# Altium footprint library Transformator.PcbLib: 59 footprints (part 2 of 4)
Each footprint in its own frame and in the unit in brackets; x right, y up, seen from the top. Pads: shape width x height; smd on the part's side, far side on the other; paste and mask are expansions set on the pad; w line width, h text height; cw(c..) or ccw(c..) is an arc to the next point about the centre after c.
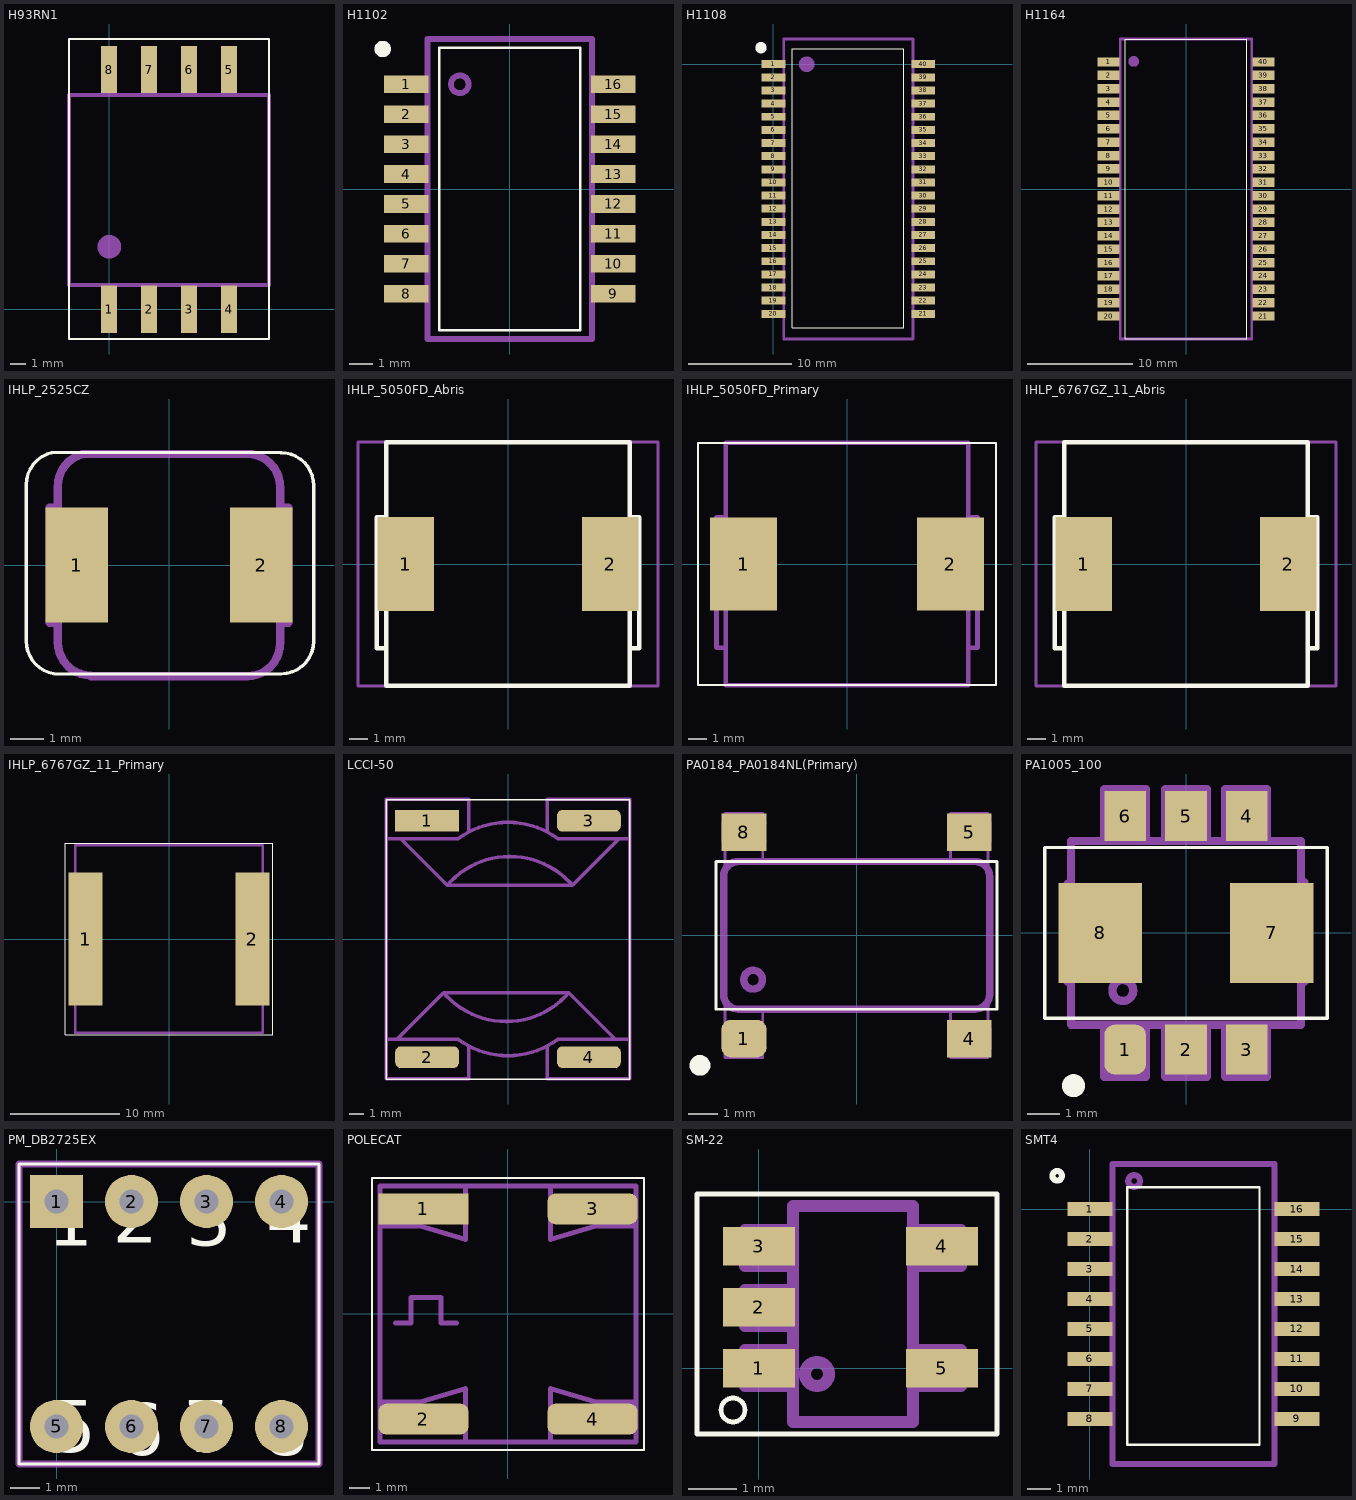
[diagram p1: the footprints below, top view; thin cyan lines are the x and y axes]

## H93RN1 [mm]
pads (8):
  rect 1x3 smd: 1(0.003,-0.023) 2(2.543,-0.023) 3(5.083,-0.023) 4(7.623,-0.023) 5(7.623,15.207) 6(5.083,15.207) 7(2.543,15.207) 8(0.003,15.207)
Top Overlay:
  lines w0.1: -2.54,-1.905 -2.54,17.145 10.16,17.145 10.16,-1.905 -1.905,-1.905 -2.54,-1.905
Mechanical 1:
  circle w0.75: c0.02,3.95 r0.375
  lines w0.25: -2.54,1.524 10.16,1.524 10.16,13.589 -2.54,13.589 -2.54,1.524

## H1102 [mm]
pads (16):
  rect 1.9x0.75 smd: 1(-4.4,4.445) 2(-4.4,3.175) 3(-4.4,1.905) 4(-4.4,0.635) 5(-4.4,-0.635) 6(-4.4,-1.905) 7(-4.4,-3.175) 8(-4.4,-4.445) 9(4.4,-4.445) 10(4.4,-3.175) 11(4.4,-1.905) 12(4.4,-0.635) 13(4.4,0.635) 14(4.4,1.905) 15(4.4,3.175) 16(4.4,4.445)
Top Overlay:
  circle w0.5: c-5.405,5.95 r0.1
  lines w0.1: -3,-6 3,-6 3,6 -3,6 -3,-6
Mechanical 1:
  circle w0.25: c-2.125,4.45 r0.375
  lines w0.25: -3.5,-6.375 3.5,-6.375 3.5,6.375 -3.5,6.375 -3.5,-6.375

## H1108 [mm]
pads (40):
  rect 2.29x0.77 smd: 1(0,0) 2(0,-1.27) 3(0,-2.54) 4(0,-3.81) 5(0,-5.08) 6(0,-6.35) 7(0,-7.62) 8(0,-8.89) 9(0,-10.16) 10(0,-11.43) 11(0,-12.7) 12(0,-13.97) 13(0,-15.24) 14(0,-16.51) 15(0,-17.78) 16(0,-19.05) 17(0,-20.32) 18(0,-21.59) 19(0,-22.86) 20(0,-24.13) 21(14.48,-24.13) 22(14.48,-22.86) 23(14.48,-21.59) 24(14.48,-20.32) 25(14.48,-19.05) 26(14.48,-17.78) 27(14.48,-16.51) 28(14.48,-15.24) 29(14.48,-13.97) 30(14.48,-12.7) 31(14.48,-11.43) 32(14.48,-10.16) 33(14.48,-8.89) 34(14.48,-7.62) 35(14.48,-6.35) 36(14.48,-5.08) 37(14.48,-3.81) 38(14.48,-2.54) 39(14.48,-1.27) 40(14.48,0)
Top Overlay:
  lines w0.1: 1.82,-25.5 12.62,-25.5 12.62,-22.9 12.62,1.5 2.02,1.5 1.82,1.5 1.82,-22.9 1.82,-25.5
  lines w0.7: -1.366,1.711 ccw(c-1.2,1.6) -1.363,1.716
Mechanical 1:
  lines w0.25: 0.99,-26.565 13.49,-26.565 13.49,2.435 0.99,2.435 0.99,-26.565
  lines w0.75: 2.845,-0.005 ccw(c3.22,-0.005) 3.595,-0.005 ccw(c3.22,-0.005) 2.845,-0.005

## H1164 [mm]
pads (40):
  rect 2.1x0.9 smd: 1(-7.35,12.065) 2(-7.35,10.795) 3(-7.35,9.525) 4(-7.35,8.255) 5(-7.35,6.985) 6(-7.35,5.715) 7(-7.35,4.445) 8(-7.35,3.175) 9(-7.35,1.905) 10(-7.35,0.635) 11(-7.35,-0.635) 12(-7.35,-1.905) 13(-7.35,-3.175) 14(-7.35,-4.445) 15(-7.35,-5.715) 16(-7.35,-6.985) 17(-7.35,-8.255) 18(-7.35,-9.525) 19(-7.35,-10.795) 20(-7.35,-12.065) 21(7.35,-12.065) 22(7.35,-10.795) 23(7.35,-9.525) 24(7.35,-8.255) 25(7.35,-6.985) 26(7.35,-5.715) 27(7.35,-4.445) 28(7.35,-3.175) 29(7.35,-1.905) 30(7.35,-0.635) 31(7.35,0.635) 32(7.35,1.905) 33(7.35,3.175) 34(7.35,4.445) 35(7.35,5.715) 36(7.35,6.985) 37(7.35,8.255) 38(7.35,9.525) 39(7.35,10.795) 40(7.35,12.065)
Top Overlay:
  lines w0.1: -5.75,-14.25 5.75,-14.25 5.75,14.25 -5.75,14.25 -5.75,-14.25
Mechanical 1:
  lines w0.25: -6.25,-14.25 6.25,-14.25 6.25,14.25 -6.25,14.25 -6.25,-14.25
  lines w0.5: -5.22,12.12 ccw(c-4.97,12.12) -4.72,12.12 ccw(c-4.97,12.12) -5.22,12.12

## IHLP_2525CZ [mm]
pads (2):
  rect 1.9x3.5 smd: 1(-2.805,0) 2(2.805,0)
Top Overlay:
  lines w0.1: -4.335,-2.335 -4.335,2.415 ; -4.335,-2.31 ccw(c-3.335,-2.31) -3.335,-3.31 ; -4.335,2.44 cw(c-3.335,2.44) -3.56,3.414 ; -3.55,3.42 3.41,3.42 ; -3.33,-3.31 3.41,-3.31 ; 3.395,3.415 cw(c3.395,2.415) 4.395,2.415 4.395,-2.335 ; 3.404,-3.305 ccw(c3.395,-2.305) 4.395,-2.305
Mechanical 1:
  lines w0.25: -3.375,-2.375 -3.375,2.375 ; -3.375,-2.35 ccw(c-2.375,-2.35) -2.375,-3.35 ; -3.375,-1.75 -3.625,-1.75 -3.625,1.75 -3.375,1.75 ; -3.375,2.4 cw(c-2.375,2.4) -2.6,3.374 ; -2.625,3.375 2.375,3.375 cw(c2.375,2.375) 3.375,2.375 3.375,-2.375 cw(c2.375,-2.375) 2.375,-3.375 -2.375,-3.375 ; 3.375,-1.75 3.625,-1.75 3.625,1.75 3.375,1.75

## IHLP_5050FD_Abris [mm]
pads (2):
  rect 3x5 smd: 1(-5.45,0) 2(5.45,0)
Top Overlay:
  lines w0.25: -6.5,-4.5 -7,-4.5 -7,2.5 -6.5,2.5 ; 6.5,-4.5 7,-4.5 7,2.5 6.5,2.5 ; -6.5,-6.5 6.5,-6.5 6.5,6.5 -6.5,6.5 -6.5,-6.5
Mechanical 1:
  lines w0.15: -8,-6.5 8,-6.5 8,6.5 -8,6.5 -8,-6.5

## IHLP_5050FD_Primary [mm]
pads (2):
  rect 3.6x5 smd: 1(-5.55,0) 2(5.55,0)
Top Overlay:
  lines w0.1: -8,-6.5 8,-6.5 8,6.5 -8,6.5 -8,-6.5
Mechanical 1:
  lines w0.25: -6.5,-4.5 -7,-4.5 -7,2.5 -6.5,2.5 ; 6.5,-4.5 7,-4.5 7,2.5 6.5,2.5 ; -6.5,-6.5 6.5,-6.5 6.5,6.5 -6.5,6.5 -6.5,-6.5

## IHLP_6767GZ_11_Abris [mm]
pads (2):
  rect 3x5 smd: 1(-5.45,0) 2(5.45,0)
Top Overlay:
  lines w0.25: -6.5,-4.5 -7,-4.5 -7,2.5 -6.5,2.5 ; 6.5,-4.5 7,-4.5 7,2.5 6.5,2.5 ; -6.5,-6.5 6.5,-6.5 6.5,6.5 -6.5,6.5 -6.5,-6.5
Mechanical 1:
  lines w0.15: -8,-6.5 8,-6.5 8,6.5 -8,6.5 -8,-6.5

## IHLP_6767GZ_11_Primary [mm]
pads (2):
  rect 3.1x12.2 smd: 1(-7.635,0) 2(7.635,0)
Top Overlay:
  lines w0.1: -9.5,-8.75 9.5,-8.75 9.5,8.75 -9.5,8.75 -9.5,-8.75
Mechanical 1:
  lines w0.25: -8.575,-8.575 8.575,-8.575 8.575,8.575 -8.575,8.575 -8.575,-8.575

## LCCI-50 [mm]
pads (4):
  rect 4.45x1.52 smd: 1(-5.65,8.25)
  rrect50% 4.45x1.52 smd: 2(-5.65,-8.25) 3(5.65,8.25) 4(5.65,-8.25)
Top Overlay:
  lines w0.1: -8.5,-9.79 8.5,-9.79 8.5,9.71 -8.5,9.71 -8.5,-9.79
Mechanical 1:
  lines w0.25: -8.5,-7 -7.75,-7 ; -8.5,7 -7.5,7 ; -4.25,3.75 cw(c0.125,0) 4.5,3.75 ; -3.501,-6.999 ccw(c0,-2.25) 3.501,-6.999 ; -3.501,6.999 cw(c0,2.25) 3.501,6.999 ; -3.5,-7 -7.75,-7 ; -3.5,7 -7.5,7 ; -2.75,-7.47 -2.75,-9.75 -8.5,-9.75 -8.5,9.75 -2.75,9.75 -2.75,7.5 ; 2.75,-7.47 2.75,-9.75 8.5,-9.75 8.5,9.75 2.75,9.75 2.75,7.5 ; 3.5,-7 7.5,-7 ; 3.5,7 7.75,7 ; 4.25,-3.75 cw(c-0.125,0) -4.5,-3.75 ; 8.5,-7 7.5,-7 ; 8.5,7 7.75,7 ; -7.75,-7 -4.5,-3.75 ; -7.5,7 -4.25,3.75 4.5,3.75 ; -4.5,-3.75 4.25,-3.75 7.5,-7 ; 4.5,3.75 7.75,7
  text "3" at 6.75,4 h1.5
  text "4" at 6.75,-5.5 h1.5
  text "1" at -7.5,4 h1.5
  text "2" at -7.5,-5.5 h1.5

## PA0184_PA0184NL(Primary) [mm]
pads (4):
  rrect50% 1.52x1.27 smd: 1(-3.81,-3.492)
  rect 1.52x1.27 smd: 4(3.81,-3.492) 5(3.81,3.492) 8(-3.81,3.492)
Top Overlay:
  circle w0.5: c-5.3,-4.4 r0.1
  lines w0.1: -4.75,-2.5 4.75,-2.5 4.75,2.5 -4.75,2.5 -4.75,-2.5
Mechanical 1:
  circle w0.25: c-3.5,-1.5 r0.318
  lines w0.1: -4.445,-2.222 -4.445,-4.127 -3.175,-4.127 -3.175,-2.54 ; -4.445,2.222 -4.445,4.127 -3.175,4.127 -3.175,2.54 ; 3.175,-2.54 3.175,-4.127 4.445,-4.127 4.445,-2.222 ; 3.175,2.54 3.175,4.127 4.445,4.127 4.445,2.222
  lines w0.15: -4,2.5 4,2.5 ; 4.5,-2 4.5,2
  lines w0.25: -3.175,-3.81 -4.445,-3.81 -4.445,-3.175 -3.175,-3.175 ; -3.175,3.175 -4.445,3.175 -4.445,3.81 -3.175,3.81 ; 3.175,-3.81 4.445,-3.81 4.445,-3.175 3.175,-3.175 ; 3.175,3.175 4.445,3.175 4.445,3.81 3.175,3.81 ; -4.5,-2 ccw(c-4,-2) -4,-2.5 4,-2.5 ccw(c4,-2) 4.5,-2 4.5,2 ccw(c4,2) 4,2.5 -4,2.5 ccw(c-4,2) -4.5,2 -4.5,-2

## PA1005_100 [mm]
pads (8):
  rrect50% 1.27x1.52 smd: 1(-1.85,-3.555)
  rect 1.27x1.52 smd: 2(0,-3.555) 3(1.85,-3.555) 4(1.85,3.555) 5(0,3.555) 6(-1.85,3.555)
  rect 2.54x3.05 smd: 7(2.615,0) 8(-2.615,0)
Top Overlay:
  circle w0.5: c-3.424,-4.654 r0.1
  lines w0.1: -4.2,2.6 4.3,2.6 4.3,-2.6 -4.3,-2.6 -4.3,2.6 -4.1,2.6
Mechanical 1:
  circle w0.25: c-1.924,-1.754 r0.318
  lines w0.25: -3.5,-1.5 -3.6,-1.5 -3.6,1.5 -3.5,1.5 ; -2.488,-2.794 -2.488,-4.381 -1.218,-4.381 -1.218,-2.794 ; -2.488,2.794 -2.488,4.381 -1.218,4.381 -1.218,2.794 ; -0.633,-2.794 -0.633,-4.381 0.637,-4.381 0.637,-2.794 ; -0.633,2.794 -0.633,4.381 0.637,4.381 0.637,2.794 ; 1.195,-2.794 1.195,-4.381 2.465,-4.381 2.465,-2.794 ; 1.195,2.794 1.195,4.381 2.465,4.381 2.465,2.794 ; 3.5,-1.5 3.6,-1.5 3.6,1.55 3.5,1.55 ; -3.5,-2.8 3.5,-2.8 3.5,2.8 -3.5,2.8 -3.5,-2.8 ; -2.488,-3.937 -2.488,-3.302 -1.218,-3.302 -1.218,-3.937 -2.488,-3.937 ; -2.488,3.302 -1.218,3.302 -1.218,3.937 -2.488,3.937 -2.488,3.302 ; -0.633,-3.937 0.637,-3.937 0.637,-3.302 -0.633,-3.302 -0.633,-3.937 ; -0.633,3.302 0.637,3.302 0.637,3.937 -0.633,3.937 -0.633,3.302 ; 1.195,-3.937 1.195,-3.302 2.465,-3.302 2.465,-3.937 1.195,-3.937 ; 1.195,3.302 2.465,3.302 2.465,3.937 1.195,3.937 1.195,3.302

## PM_DB2725EX [mm]
pads (8):
  rect 1.8x1.8 hole 0.8: 1(0,0)
  round 1.8 hole 0.8: 2(2.54,0) 3(5.08,0) 4(7.62,0) 5(0,-7.62) 6(2.54,-7.62) 7(5.08,-7.62) 8(7.62,-7.62)
Top Overlay:
  lines w0.1: -1.27,-8.89 8.89,-8.89 8.89,1.27 -1.27,1.27 -1.27,-8.89
  text "3" at 4.4,-1.5 h1.76
  text "7" at 4.3,-8.5 h1.76
  text "4" at 7.1,-1.4 h1.76
  text "8" at 7,-8.6 h1.76
  text "1" at -0.3,-1.5 h1.76
  text "2" at 1.9,-1.4 h1.76
  text "5" at -0.2,-8.5 h1.76
  text "6" at 2.1,-8.6 h1.76
Mechanical 1:
  lines w0.25: -1.27,-8.89 8.89,-8.89 8.89,1.27 -1.27,1.27 -1.27,-8.89

## POLECAT [mm]
pads (4):
  rect 4.45x1.52 smd: 1(-4.19,5.205)
  rrect50% 4.45x1.52 smd: 2(-4.19,-5.205) 3(4.19,5.205) 4(4.19,-5.205)
Top Overlay:
  lines w0.1: -6.73,-6.73 6.73,-6.73 6.73,6.73 -6.73,6.73 -6.73,-6.73
Mechanical 1:
  lines w0.25: -6.35,-4.35 -4.35,-4.35 -2.095,-3.685 -2.095,-6.35 ; -6.35,4.35 -4.35,4.35 -2.095,3.685 -2.095,6.35 ; -5.56,-0.44 -4.81,-0.44 -4.81,0.81 -3.31,0.81 -3.31,-0.44 -2.56,-0.44 ; 2.095,-6.35 2.095,-3.685 4.35,-4.35 6.35,-4.35 ; 2.095,6.35 2.095,3.685 4.35,4.35 6.35,4.35 ; -6.35,-6.35 6.35,-6.35 6.35,6.35 -6.35,6.35 -6.35,-6.35
  text "3" at 2.285,1.795 h1.5
  text "1" at -2.82,1.795 h1.5
  text "4" at 2.285,-3.19 h1.5
  text "2" at -2.845,-3.21 h1.5

## SM-22 [mm]
pads (5):
  rect 1.5x0.8 smd: 1(0,0) 2(0,1.27) 3(0,2.54) 4(3.81,2.54) 5(3.81,0)
Top Overlay:
  lines w0.1: -1.29,-1.37 4.96,-1.37 4.96,3.63 -1.29,3.63 -1.29,-1.37 ; -0.79,-0.87 ccw(c-0.54,-0.87) -0.29,-0.87 ccw(c-0.54,-0.87) -0.79,-0.87
Mechanical 1:
  lines w0.25: 0.71,-0.37 -0.29,-0.37 -0.29,0.38 0.71,0.38 ; 0.71,0.88 -0.29,0.88 -0.29,1.63 0.71,1.63 ; 0.71,2.13 -0.29,2.13 -0.29,2.88 0.71,2.88 ; 3.21,-0.37 4.21,-0.37 4.21,0.38 3.21,0.38 ; 3.21,2.13 4.21,2.13 4.21,2.88 3.21,2.88 ; 0.71,-1.12 3.21,-1.12 3.21,3.38 0.71,3.38 0.71,-1.12 ; 0.96,-0.12 ccw(c1.21,-0.12) 1.46,-0.12 ccw(c1.21,-0.12) 0.96,-0.12

## SMT4 [mm]
pads (16):
  rect 1.91x0.6 smd: 1(0,0) 2(0,-1.27) 3(0,-2.54) 4(0,-3.81) 5(0,-5.08) 6(0,-6.35) 7(0,-7.62) 8(0,-8.89) 9(8.77,-8.89) 10(8.77,-7.62) 11(8.77,-6.35) 12(8.77,-5.08) 13(8.77,-3.81) 14(8.77,-2.54) 15(8.77,-1.27) 16(8.77,0)
Top Overlay:
  lines w0.1: 1.58,-9.98 7.18,-9.98 7.18,0.92 1.58,0.92 1.58,-9.98
  lines w0.254: -1.59,1.41 cw(c-1.39,1.41) -1.19,1.41 cw(c-1.39,1.41) -1.59,1.41
Mechanical 1:
  lines w0.25: 0.955,-10.8 7.815,-10.8 7.815,1.91 0.955,1.91 0.955,-10.8
  lines w0.254: 1.62,1.19 ccw(c1.87,1.19) 2.12,1.19 ccw(c1.87,1.19) 1.62,1.19